# Altium schematic symbol library DRV5055A1QDBZT.Schlib: 1 symbol
Pins are listed as number, name and electrical type; pins without a type are passive.

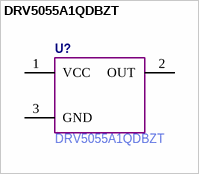
[diagram p0: symbol DRV5055A1QDBZT]

## DRV5055A1QDBZT
designator U?
Manufacturer Part Number: DRV5055A1QDBZT
pins: 1 VCC, 2 OUT, 3 GND